# Altium footprint library B39162B4327P810.PcbLib: 1 footprints
Each footprint in its own frame and in the unit in brackets; x right, y up, seen from the top. Pads: shape width x height; smd on the part's side, far side on the other; paste and mask are expansions set on the pad; w line width, h text height; cw(c..) or ccw(c..) is an arc to the next point about the centre after c.
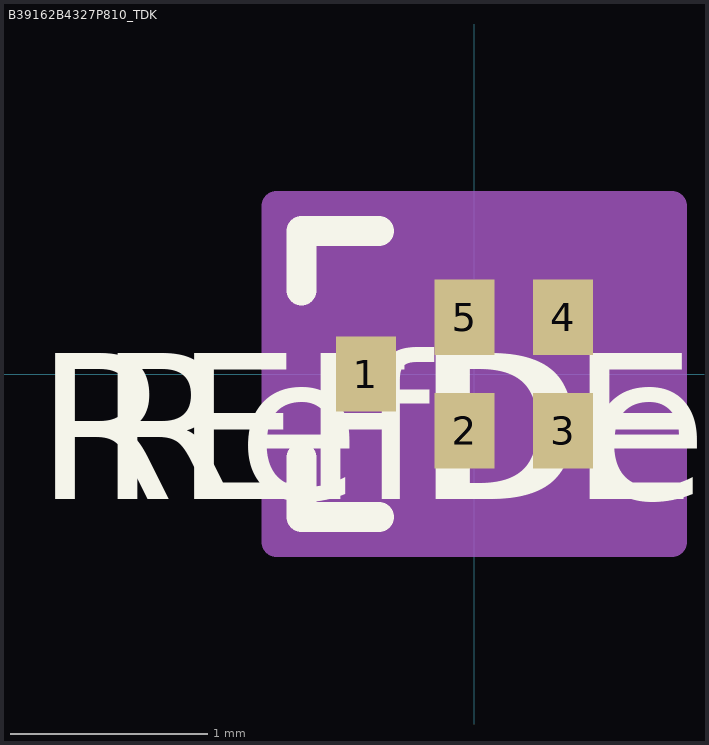
[diagram p0: the footprint, top view; thin cyan lines are the x and y axes]

## B39162B4327P810_TDK [mil]
pads (5):
  rect 12x15 smd paste-7.5 mask-7.5: 1(-21.63,0) 2(-1.94,-11.32) 3(17.74,-11.32) 4(17.74,11.32) 5(-1.94,11.32)
Top Overlay:
  lines w6: -34.5,-16.71 -34.5,-28.5 -19.04,-28.5 ; -34.5,16.71 -34.5,28.5 -19.04,28.5
  text "RefDes" at -75,-25 h50
  text "REFDES" at -87.5,-25 h50
Mechanical 13:
  circle w0: c27.74,30.32 r0
  lines w1: -29.5,-23.5 29.5,-23.5 29.5,23.5 -29.5,23.5 -29.5,-23.5
  text "RefDes2" at -87.5,-25 h50
Mechanical 15:
  region: 39.5,-33.5 -39.5,-33.5 -39.5,33.5 39.5,33.5
  region: 29.5,-23.5 -29.5,-23.5 -29.5,23.5 29.5,23.5
  lines w6: -39.5,-33.5 -39.5,33.5 39.5,33.5 39.5,-33.5 -39.5,-33.5